# EAGLE library part TC2030-MCP (library tag-connect)
TC2030-MCP Tag Connect Plug-of-Nails™ for Microchip Pin 1: MCLR / Vpp Pin 2: Vdd Pin 3: GND Pin 4: PGD (ICSPDAT) Pin 5: PGC (ICSPCLK) Pin 6: Unused / LVP
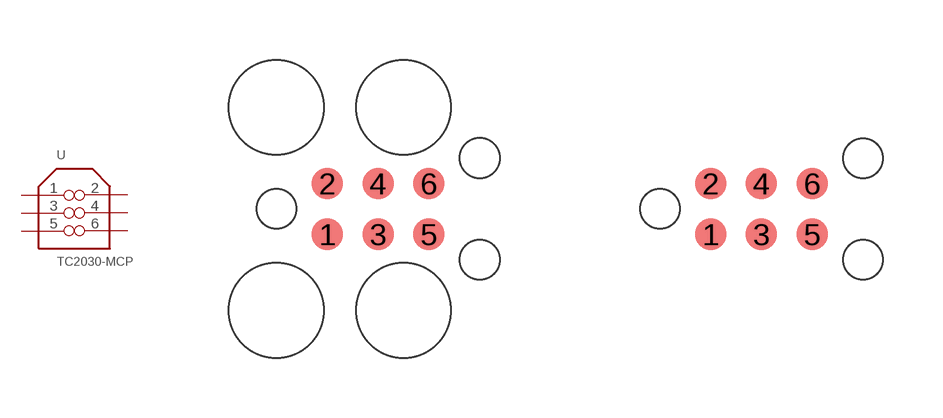
[diagram p2: symbol with the pads of TC2030-IDC; footprints TC2030-IDC, TC2030-IDC-NL]

Designator prefix -

## TC2030-MCP  [TC2030-IDC]
1  P$1
2  P$2
3  P$3
4  P$4
5  P$5
6  P$6

## TC2030-MCP-NL  [TC2030-IDC-NL]
Pads as for TC2030-IDC

## Footprint TC2030-IDC (pad centres in mm)
smd 0.787 x 0.787: 1 0,0; 2 0,1.27; 3 1.27,0; 4 1.27,1.27; 5 2.54,0; 6 2.54,1.27
hole 0.991 at -1.27,0.635
hole 0.991 at 3.81,-0.635
hole 0.991 at 3.81,1.905
hole 2.375 at -1.27,3.175
hole 2.375 at 1.905,3.175
hole 2.375 at -1.27,-1.905
hole 2.375 at 1.905,-1.905

## Footprint TC2030-IDC-NL (pad centres in mm)
smd 0.787 x 0.787: 1 0,0; 2 0,1.27; 3 1.27,0; 4 1.27,1.27; 5 2.54,0; 6 2.54,1.27
hole 0.991 at -1.27,0.635
hole 0.991 at 3.81,-0.635
hole 0.991 at 3.81,1.905